# Altium footprint library NIXIE_N.PcbLib: 69 footprints (part 4 of 5)
Each footprint in its own frame and in the unit in brackets; x right, y up, seen from the top. Pads: shape width x height; smd on the part's side, far side on the other; paste and mask are expansions set on the pad; w line width, h text height; cw(c..) or ccw(c..) is an arc to the next point about the centre after c.
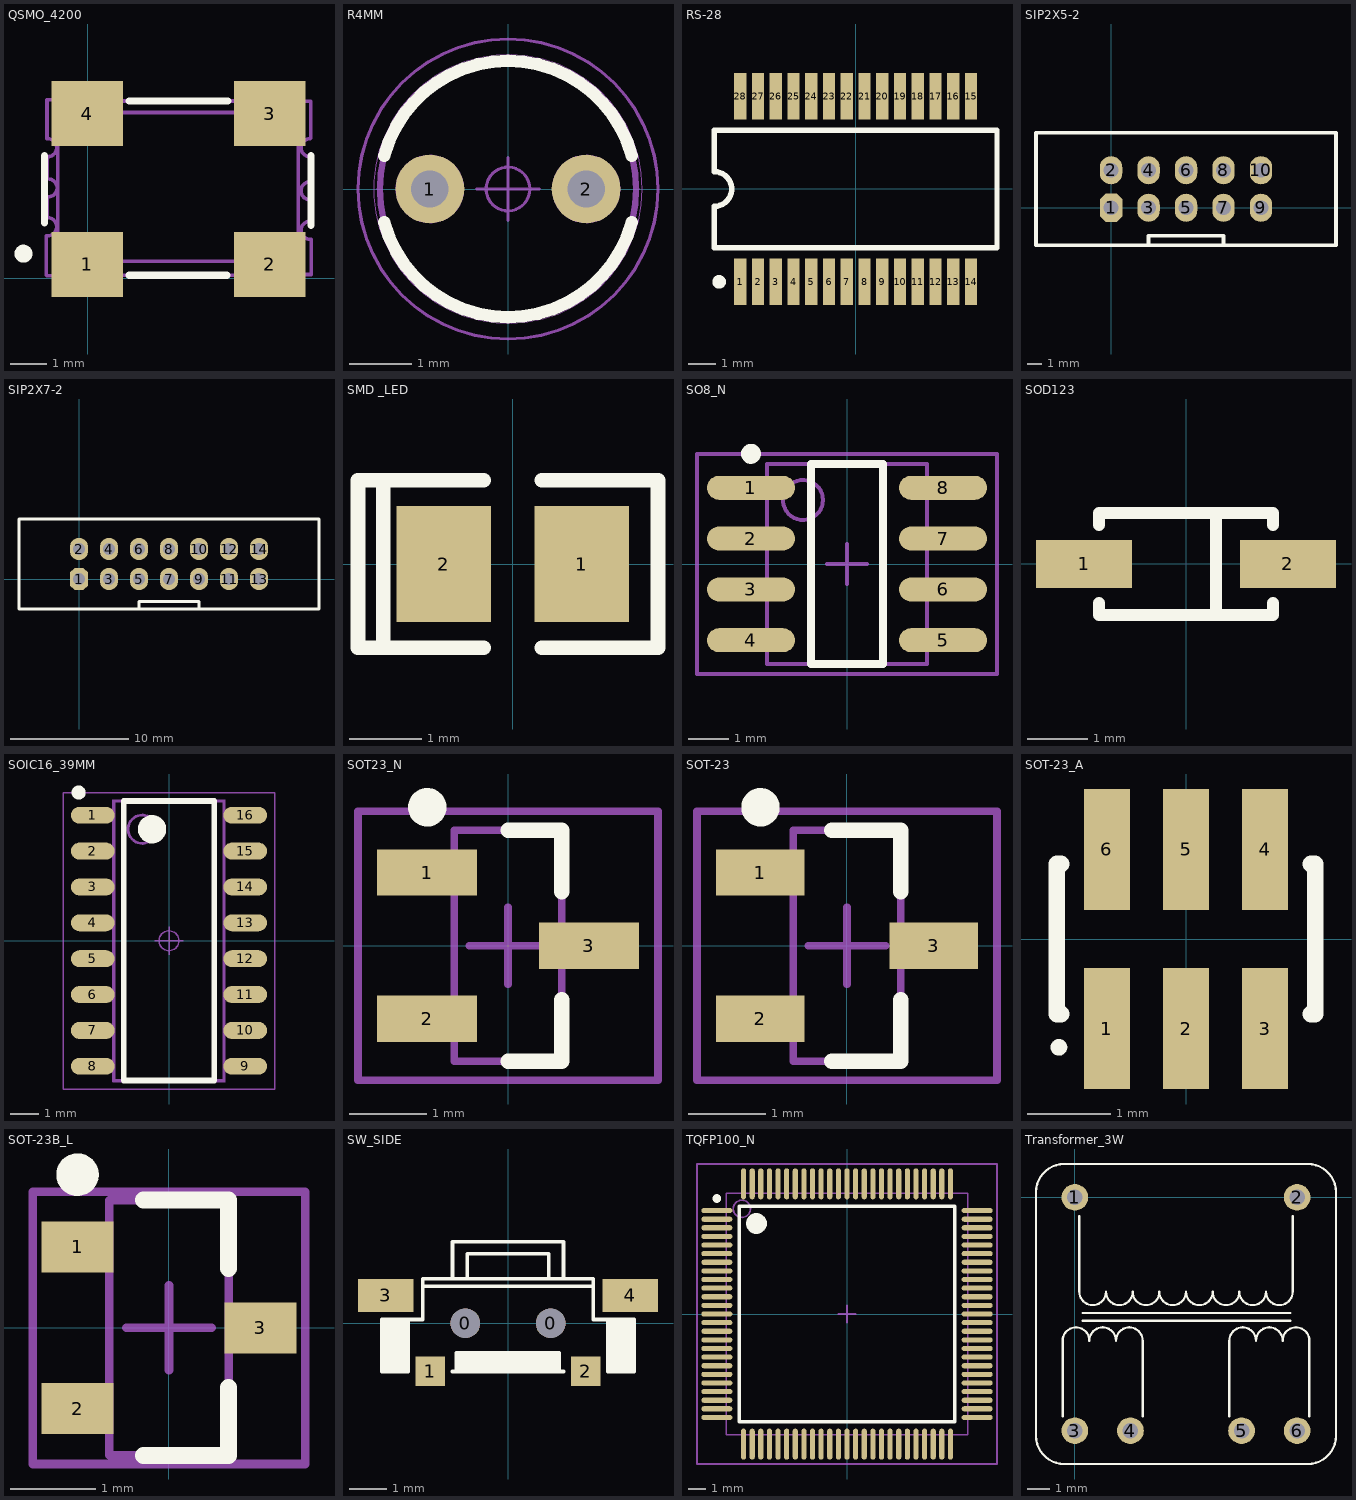
[diagram p3: the footprints below, top view; thin cyan lines are the x and y axes]

## QSMO_4200 [mm]
height 2.8
pads (4):
  rect 2x1.8 smd: 1(-0.009,0.39) 2(5.071,0.39) 3(5.071,4.59) 4(-0.009,4.59)
Top Overlay:
  circle w0.25: c-1.784,0.69 r0.125
  lines w0.2: -1.203,1.54 -1.203,3.419 ; 1.152,4.943 3.902,4.943 ; 1.159,0.092 3.877,0.092 ; 6.214,1.479 6.214,3.419
Mechanical 15:
  lines w0.1: -1.152,0.092 -1.152,1.184 ; -1.129,0.08 -0.279,0.08 -0.299,0.1 ; -1.129,3.89 -1.129,4.97 -0.269,4.97 ; -1.127,1.692 -1.127,2.276 ; -1.127,2.784 -1.127,3.369 ; -1.109,1.19 ccw(c-1.109,1.44) -1.109,1.69 ; -1.109,3.39 ccw(c-1.109,3.64) -1.109,3.89 ; -1.099,2.27 ccw(c-1.099,2.52) -1.099,2.77 ; -0.839,0.48 5.861,0.48 5.861,4.62 -0.829,4.62 -0.829,3.9 -0.829,0.5 ; -0.309,0.14 cw(c-0.059,0.14) 0.191,0.14 ; -0.239,4.9 ccw(c0.011,4.9) 0.261,4.9 ; 0.181,0.09 4.771,0.09 ; 0.241,4.94 4.861,4.94 ; 4.791,0.15 cw(c5.041,0.15) 5.291,0.15 ; 4.871,4.9 ccw(c5.121,4.9) 5.371,4.9 ; 5.281,0.11 6.221,0.11 6.221,1.09 ; 5.341,4.93 6.211,4.93 6.211,3.9 ; 6.188,1.61 6.188,2.175 ; 6.191,1.09 cw(c6.191,1.34) 6.191,1.59 ; 6.191,2.19 cw(c6.191,2.44) 6.191,2.69 ; 6.191,3.39 cw(c6.191,3.64) 6.191,3.89 ; 6.214,2.694 6.214,3.369
3D body: height 0.75, standoff 0, extent 4.28,-0.2 5.88,1.1
3D body: height 0.75, standoff 0, extent -0.818,-0.319 0.782,0.981
3D body: height 0.75, standoff 0, extent 4.28,4 5.88,5.3
3D body: height 0.75, standoff 0, extent -0.8,4 0.8,5.3
3D body: height 1.5, standoff 0, extent -1.143,0.127 6.096,4.953

## R4MM [mm]
pads (2):
  round 1.1 hole 0.6: 1(-1.25,0) 2(1.25,0)
Top Overlay:
  lines w0.2: -1.98,-0.531 ccw(c0,0) 1.98,-0.531 ; -1.98,0.531 cw(c0,0) 1.98,0.531
Mechanical 15:
  circle w0.1: c1.25,0 r0.5
  circle w0.1: c-1.25,0 r0.5
  circle w0.1: c0,0 r2.05
Mechanical 16:
  circle w0.1: c1.25,0 r0.5
  circle w0.1: c-1.25,0 r0.5
  circle w0.001: c0,0 r2.15
  circle w0.05: c0,0 r0.35
  circle w0.05: c0,0 r2.4
  lines w0.05: -0.5,0 0.5,0 ; 0,-0.5 0,0.5

## RS-28 [mm] "SSOP; 28 Leads; Body Width 5.3 mm; Pitch 0.65 mm"
height 1.98
pads (28):
  rect 0.45x1.7 smd: 1(-4.225,-3.4) 2(-3.575,-3.4) 3(-2.925,-3.4) 4(-2.275,-3.4) 5(-1.625,-3.4) 6(-0.975,-3.4) 7(-0.325,-3.4) 8(0.325,-3.4) 9(0.975,-3.4) 10(1.625,-3.4) 11(2.275,-3.4) 12(2.925,-3.4) 13(3.575,-3.4) 14(4.225,-3.4) 15(4.225,3.4) 16(3.575,3.4) 17(2.925,3.4) 18(2.275,3.4) 19(1.625,3.4) 20(0.975,3.4) 21(0.325,3.4) 22(-0.325,3.4) 23(-0.975,3.4) 24(-1.625,3.4) 25(-2.275,3.4) 26(-2.925,3.4) 27(-3.575,3.4) 28(-4.225,3.4)
Top Overlay:
  circle w0.25: c-5,-3.4 r0.125
  lines w0.2: -5.175,-2.15 -5.175,-0.635 ccw(c-5.175,0) -5.175,0.635 -5.175,2.15 5.175,2.15 5.175,-2.15 -5.175,-2.15

## SIP2X5-2 [mm]
pads (10):
  oct 1.524x1.905 hole 1: 1(0,0)
  oval 1.524x1.905 hole 1: 2(0,2.54) 3(2.54,0) 4(2.54,2.54) 5(5.08,0) 6(5.08,2.54) 7(7.62,0) 8(7.62,2.54) 9(10.16,0) 10(10.16,2.54)
Top Overlay:
  lines w0.254: 2.54,-2.54 2.54,-1.905 7.62,-1.905 7.62,-2.54 ; -5.08,-2.54 15.24,-2.54 15.24,5.08 -5.08,5.08 -5.08,-2.54

## SIP2X7-2 [mm]
pads (14):
  oct 1.524x1.905 hole 1: 1(0,0)
  oval 1.524x1.905 hole 1: 2(0,2.54) 3(2.54,0) 4(2.54,2.54) 5(5.08,0) 6(5.08,2.54) 7(7.62,0) 8(7.62,2.54) 9(10.16,0) 10(10.16,2.54) 11(12.7,0) 12(12.7,2.54) 13(15.24,0) 14(15.24,2.54)
Top Overlay:
  lines w0.254: 5.08,-2.54 5.08,-1.905 10.16,-1.905 10.16,-2.54 ; -5.08,-2.54 -5.08,5.08 20.32,5.08 20.32,-2.54 -5.08,-2.54

## SMD _LED [mm]
pads (2):
  rect 1.3x1.6 smd: 1(0.948,0.006) 2(-0.952,0.006)
Top Overlay:
  lines w0.2: -1.782,-1.144 -1.782,1.156 ; -0.402,-1.144 -2.132,-1.144 -2.132,1.156 -0.402,1.156 ; 0.398,-1.144 1.998,-1.144 1.998,1.156 0.398,1.156
3D body: height 0.64, standoff 0, extent -1.524,-0.635 1.524,0.635
3D body: height 1.27, standoff 0, extent -0.508,-0.508 0.508,0.508

## SO8_N [mm] "SOIC, 8-Leads, Body 4.9x3.9mm, Pitch 1.27mm, IPC Medium Density"
height 1.75
pads (8):
  oval 2.2x0.6 smd: 1(-2.4,1.905) 2(-2.4,0.635) 3(-2.4,-0.635) 4(-2.4,-1.905) 5(2.4,-1.905) 6(2.4,-0.635) 7(2.4,0.635) 8(2.4,1.905)
Top Overlay:
  circle w0.25: c-2.4,2.755 r0.125
  lines w0.2: -0.9,-2.5 0.9,-2.5 0.9,2.5 -0.9,2.5 -0.9,-2.5
Mechanical 13:
  circle w0.1: c-1.1,1.6 r0.5
  lines w0.1: -2,-2.5 2,-2.5 2,2.5 -2,2.5 -2,-2.5
Mechanical 15:
  lines w0.1: -0.5,0 0.5,0 ; 0,-0.5 0,0.5 ; -3.75,-2.75 3.75,-2.75 3.75,2.75 -3.75,2.75 -3.75,-2.75
3D body: height 1.75, standoff 0, extent -2,-2.5 2,2.5

## SOD123 [mm] "SOD-123; 2 Leads; Body 2.7 x 1.6 mm, (LxW)"
height 1.35
pads (2):
  rect 1.6x0.8 smd: 1(-1.7,0) 2(1.7,0)
Top Overlay:
  lines w0.2: -1.45,-0.65 -1.45,-0.85 1.45,-0.85 1.45,-0.65 ; -1.45,0.65 -1.45,0.85 1.45,0.85 1.45,0.65 ; 0.5,-0.85 0.5,0.85

## SOIC16_39MM [mm]
pads (16):
  oval 1.55x0.6 smd: 1(-2.7,4.445) 2(-2.7,3.175) 3(-2.7,1.905) 4(-2.7,0.635) 5(-2.7,-0.635) 6(-2.7,-1.905) 7(-2.7,-3.175) 8(-2.7,-4.445) 9(2.7,-4.445) 10(2.7,-3.175) 11(2.7,-1.905) 12(2.7,-0.635) 13(2.7,0.635) 14(2.7,1.905) 15(2.7,3.175) 16(2.7,4.445)
Top Overlay:
  circle w0.5: c-0.6,3.95 r0.25
  circle w0.25: c-3.2,5.25 r0.125
  lines w0.2: -1.6,-4.95 1.6,-4.95 1.6,4.95 -1.6,4.95 -1.6,-4.95
Mechanical 15:
  circle w0.1: c-0.95,3.95 r0.5
  lines w0.1: -1.95,-4.95 1.95,-4.95 1.95,4.95 -1.95,4.95 -1.95,-4.95
  text "1" at 0.45,-0.164 h0.75
Mechanical 16:
  circle w0.05: c0,0 r0.35
  lines w0.001: -1.995,-5 1.995,-5 1.995,5 -1.995,5 -1.995,-5
  lines w0.05: -0.5,0 0.5,0 ; 0,-0.5 0,0.5 ; -3.75,-5.25 3.75,-5.25 3.75,5.25 -3.75,5.25 -3.75,-5.25

## SOT23_N [mm] "SOT23, 3-Leads, Body 2.9x1.3mm, Pitch 0.95mm, Lead Span 2.3mm, IPC Medium Density"
height 1.1
pads (3):
  rect 1.3x0.6 smd: 1(-1.05,0.95) 2(-1.05,-0.95) 3(1.05,0)
Top Overlay:
  circle w0.25: c-1.05,1.8 r0.125
  lines w0.2: 0,-1.5 0.7,-1.5 0.7,-0.7 ; 0,1.5 0.7,1.5 0.7,0.7
Mechanical 13:
  lines w0.1: -0.7,-1.5 0.7,-1.5 0.7,1.5 -0.7,1.5 -0.7,-1.5
Mechanical 15:
  lines w0.1: -0.5,0 0.5,0 ; 0,-0.5 0,0.5 ; -1.95,-1.75 1.95,-1.75 1.95,1.75 -1.95,1.75 -1.95,-1.75
3D body: height 1.1, standoff 0, extent -0.7,-1.5 0.7,1.5

## SOT-23 [mm] "SOT23, 3-Leads, Body 2.9x1.3mm, Pitch 0.95mm, Lead Span 2.4mm, IPC Medium Density"
height 1.14
pads (3):
  rect 1.15x0.6 smd: 1(-1.125,0.95) 2(-1.125,-0.95) 3(1.125,0)
Top Overlay:
  circle w0.25: c-1.125,1.8 r0.125
  lines w0.2: -0.2,-1.5 0.7,-1.5 0.7,-0.7 ; -0.2,1.5 0.7,1.5 0.7,0.7
Mechanical 13:
  lines w0.1: -0.7,-1.5 0.7,-1.5 0.7,1.5 -0.7,1.5 -0.7,-1.5
Mechanical 15:
  lines w0.1: -0.5,0 0.5,0 ; 0,-0.5 0,0.5 ; -1.95,-1.75 1.95,-1.75 1.95,1.75 -1.95,1.75 -1.95,-1.75
3D body: height 1.14, standoff 0, extent -0.7,-1.5 0.7,1.5

## SOT-23_A [mm] "SOT-457/SC-74; 6 Leads; Body 3.1 x 3 mm, inc. leads (LxW max)"
height 1.45
pads (6):
  rect 0.55x1.45 smd: 1(-0.95,-1.075) 2(0,-1.075) 3(0.95,-1.075) 4(0.95,1.075) 5(0,1.075) 6(-0.95,1.075)
Top Overlay:
  circle w0.1: c-1.525,-1.3 r0.05
  lines w0.2: -1.5,-0.9 -1.55,-0.9 -1.55,0.9 -1.5,0.9 ; 1.5,-0.9 1.55,-0.9 1.55,0.9 1.5,0.9

## SOT-23B_L [mm] "SOT23, 3-Leads, Body 2.9x1.3mm, Pitch 0.95mm, Lead Span 2.4mm, IPC High Density"
height 1.14
pads (3):
  rect 0.85x0.6 smd: 1(-1.075,0.95) 2(-1.075,-0.95) 3(1.075,0)
Top Overlay:
  circle w0.25: c-1.075,1.8 r0.125
  lines w0.2: -0.3,-1.5 0.7,-1.5 0.7,-0.7 ; -0.3,1.5 0.7,1.5 0.7,0.7
Mechanical 13:
  lines w0.1: -0.7,-1.5 -0.7,1.5 0.7,1.5 0.7,-1.5 -0.7,-1.5
Mechanical 15:
  lines w0.1: -0.5,0 0.5,0 ; 0,-0.5 0,0.5 ; -1.6,-1.6 -1.6,1.6 1.6,1.6 1.6,-1.6 -1.6,-1.6
3D body: height 1.14, standoff 0, extent -0.7,-1.5 0.7,1.5

## SW_SIDE [mm]
pads (6):
  round 0.8 hole 0.8 unplated: 0(-1.15,0) 0(1.15,0)
  rect 0.8x0.8 smd: 1(-2.1,-1.3) 2(2.1,-1.3)
  rect 1.5x0.9 smd: 3(-3.3,0.75) 4(3.3,0.75)
Top Overlay:
  region: 3.425,0.075 2.65,0.075 2.65,-1.275 3.425,-1.275
  region: -2.65,0.075 -3.425,0.075 -3.425,-1.275 -2.65,-1.275
  region: 1.375,-0.825 -1.4,-0.825 -1.4,-1.3 1.375,-1.3
  lines w0.1: -3.4,0.1 -3.4,-1.3 -2.7,-1.3 ; -3.375,0.1 -2.3,0.1 -2.3,1 ; -1.5,-1.3 1.5,-1.3 ; -1.5,1.2 -1.5,2.2 1.5,2.2 1.5,1.225 ; -1.4,-1.275 -1.4,-0.8 1.375,-0.8 1.375,-1.3 ; -1.1,1.225 -1.1,1.875 1.1,1.875 1.1,1.225 ; 2.3,0.8 2.3,1.2 -2.3,1.2 -2.3,1 ; 2.7,-1.3 3.4,-1.3 3.4,0.1 2.3,0.1 2.3,1 -2.3,1

## TQFP100_N [mm] "Thin QFP, 100-Leads, Body 14x14mm, Pitch 0.5mm, IPC Medium Density"
height 1.2
pads (100):
  oval 1.8x0.3 smd: 1(-7.55,6) 2(-7.55,5.5) 3(-7.55,5) 4(-7.55,4.5) 5(-7.55,4) 6(-7.55,3.5) 7(-7.55,3) 8(-7.55,2.5) 9(-7.55,2) 10(-7.55,1.5) 11(-7.55,1) 12(-7.55,0.5) 13(-7.55,0) 14(-7.55,-0.5) 15(-7.55,-1) 16(-7.55,-1.5) 17(-7.55,-2) 18(-7.55,-2.5) 19(-7.55,-3) 20(-7.55,-3.5) 21(-7.55,-4) 22(-7.55,-4.5) 23(-7.55,-5) 24(-7.55,-5.5) 25(-7.55,-6) 51(7.55,-6) 52(7.55,-5.5) 53(7.55,-5) 54(7.55,-4.5) 55(7.55,-4) 56(7.55,-3.5) 57(7.55,-3) 58(7.55,-2.5) 59(7.55,-2) 60(7.55,-1.5) 61(7.55,-1) 62(7.55,-0.5) 63(7.55,0) 64(7.55,0.5) 65(7.55,1) 66(7.55,1.5) 67(7.55,2) 68(7.55,2.5) 69(7.55,3) 70(7.55,3.5) 71(7.55,4) 72(7.55,4.5) 73(7.55,5) 74(7.55,5.5) 75(7.55,6)
  oval 0.3x1.8 smd: 26(-6,-7.55) 27(-5.5,-7.55) 28(-5,-7.55) 29(-4.5,-7.55) 30(-4,-7.55) 31(-3.5,-7.55) 32(-3,-7.55) 33(-2.5,-7.55) 34(-2,-7.55) 35(-1.5,-7.55) 36(-1,-7.55) 37(-0.5,-7.55) 38(0,-7.55) 39(0.5,-7.55) 40(1,-7.55) 41(1.5,-7.55) 42(2,-7.55) 43(2.5,-7.55) 44(3,-7.55) 45(3.5,-7.55) 46(4,-7.55) 47(4.5,-7.55) 48(5,-7.55) 49(5.5,-7.55) 50(6,-7.55) 76(6,7.55) 77(5.5,7.55) 78(5,7.55) 79(4.5,7.55) 80(4,7.55) 81(3.5,7.55) 82(3,7.55) 83(2.5,7.55) 84(2,7.55) 85(1.5,7.55) 86(1,7.55) 87(0.5,7.55) 88(0,7.55) 89(-0.5,7.55) 90(-1,7.55) 91(-1.5,7.55) 92(-2,7.55) 93(-2.5,7.55) 94(-3,7.55) 95(-3.5,7.55) 96(-4,7.55) 97(-4.5,7.55) 98(-5,7.55) 99(-5.5,7.55) 100(-6,7.55)
Top Overlay:
  circle w0.6: c-5.25,5.25 r0.3
  circle w0.25: c-7.55,6.7 r0.125
  lines w0.2: -6.25,-6.25 6.25,-6.25 6.25,6.25 -6.25,6.25 -6.25,-6.25
Mechanical 13:
  circle w0.1: c-6.1,6.1 r0.5
  lines w0.1: -7,-7 7,-7 7,7 -7,7 -7,-7
Mechanical 15:
  lines w0.1: -0.5,0 0.5,0 ; 0,-0.5 0,0.5 ; -8.7,-8.7 8.7,-8.7 8.7,8.7 -8.7,8.7 -8.7,-8.7
3D body: height 1.2, standoff 0, extent -7,-7 7,7

## Transformer_3W [mm]
height 2.1
pads (6):
  round 1.2 hole 0.7: 1(0,0) 2(10,0) 3(0,-10.5) 4(2.5,-10.5) 5(7.5,-10.5) 6(10,-10.5)
Top Overlay:
  lines w0.1: -1.75,0.23 cw(c-0.48,0.23) -0.48,1.5 10.48,1.5 cw(c10.48,0.23) 11.75,0.23 11.75,-10.73 cw(c10.48,-10.73) 10.48,-12 -0.48,-12 cw(c-0.48,-10.73) -1.75,-10.73 -1.75,0.3 ; -0.55,-9.85 -0.55,-6.45 cw(c0.05,-6.45) 0.05,-5.85 cw(c0.05,-6.45) 0.65,-6.45 ; 0.2,-0.85 0.2,-4.25 ccw(c0.8,-4.25) 0.8,-4.85 ccw(c0.8,-4.25) 1.4,-4.25 ; 0.35,-5.55 9.7,-5.55 ; 0.35,-5.2 9.7,-5.2 ; 3.05,-9.85 3.05,-6.45 ; 6.95,-9.85 6.95,-6.45 cw(c7.55,-6.45) 7.55,-5.85 cw(c7.55,-6.45) 8.15,-6.45 ; 9.8,-0.85 9.8,-4.25 cw(c9.2,-4.25) 9.2,-4.85 ; 10.55,-9.85 10.55,-6.45 ; 0.65,-6.45 cw(c1.25,-6.45) 1.25,-5.85 ; 0.65,-6.45 0.65,-6.45 ; 1.25,-5.85 cw(c1.25,-6.45) 1.85,-6.45 ; 1.25,-5.85 1.25,-5.85 ; 1.4,-4.25 ccw(c2,-4.25) 2,-4.85 ; 1.4,-4.25 1.4,-4.25 ; 1.85,-6.45 cw(c2.45,-6.45) 2.45,-5.85 ; 1.85,-6.45 1.85,-6.45 ; 2,-4.85 ccw(c2,-4.25) 2.6,-4.25 ; 2,-4.85 2,-4.85 ; 2.45,-5.85 cw(c2.45,-6.45) 3.05,-6.45 ; 2.45,-5.85 2.45,-5.85 ; 2.6,-4.25 ccw(c3.2,-4.25) 3.2,-4.85 ; 2.6,-4.25 2.6,-4.25 ; 3.05,-6.45 3.05,-6.45 ; 3.2,-4.85 ccw(c3.2,-4.25) 3.8,-4.25 ; 3.2,-4.85 3.2,-4.85 ; 3.8,-4.25 ccw(c4.4,-4.25) 4.4,-4.85 ; 3.8,-4.25 3.8,-4.25 ; 4.4,-4.85 ccw(c4.4,-4.25) 5,-4.25 ; 4.4,-4.85 4.4,-4.85 ; 5,-4.25 ccw(c5.6,-4.25) 5.6,-4.85 ; 5,-4.25 5,-4.25 ; 5.6,-4.85 ccw(c5.6,-4.25) 6.2,-4.25 ; 5.6,-4.85 5.6,-4.85 ; 6.2,-4.25 ccw(c6.8,-4.25) 6.8,-4.85 ; 6.2,-4.25 6.2,-4.25 ; 6.8,-4.85 ccw(c6.8,-4.25) 7.4,-4.25 ; 6.8,-4.85 6.8,-4.85 ; 7.4,-4.25 ccw(c8,-4.25) 8,-4.85 ; 7.4,-4.25 7.4,-4.25 ; 8,-4.85 ccw(c8,-4.25) 8.6,-4.25 ; 8,-4.85 8,-4.85 ; 8.15,-6.45 cw(c8.75,-6.45) 8.75,-5.85 ; 8.15,-6.45 8.15,-6.45 ; 8.6,-4.25 ccw(c9.2,-4.25) 9.2,-4.85 ; 8.6,-4.25 8.6,-4.25 ; 8.75,-5.85 cw(c8.75,-6.45) 9.35,-6.45 ; 8.75,-5.85 8.75,-5.85 ; 9.2,-4.85 9.2,-4.85 ; 9.35,-6.45 cw(c9.95,-6.45) 9.95,-5.85 ; 9.35,-6.45 9.35,-6.45 ; 9.95,-5.85 cw(c9.95,-6.45) 10.55,-6.45 ; 9.95,-5.85 9.95,-5.85 ; 10.55,-6.45 10.55,-6.45